# Altium schematic symbol library MESFET-N.Schlib: 1 symbol
Pins are listed as number, name and electrical type; pins without a type are passive.

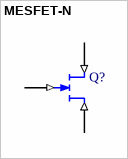
[diagram p0: symbol MESFET-N]

## MESFET-N
designator Q?
N-Channel MESFET
pins: 1 D (in), 2 G (in), 3 S (in)